# Altium footprint library SOICW16.PcbLib: 1 footprints
Each footprint in its own frame and in the unit in brackets; x right, y up, seen from the top. Pads: shape width x height; smd on the part's side, far side on the other; paste and mask are expansions set on the pad; w line width, h text height; cw(c..) or ccw(c..) is an arc to the next point about the centre after c.
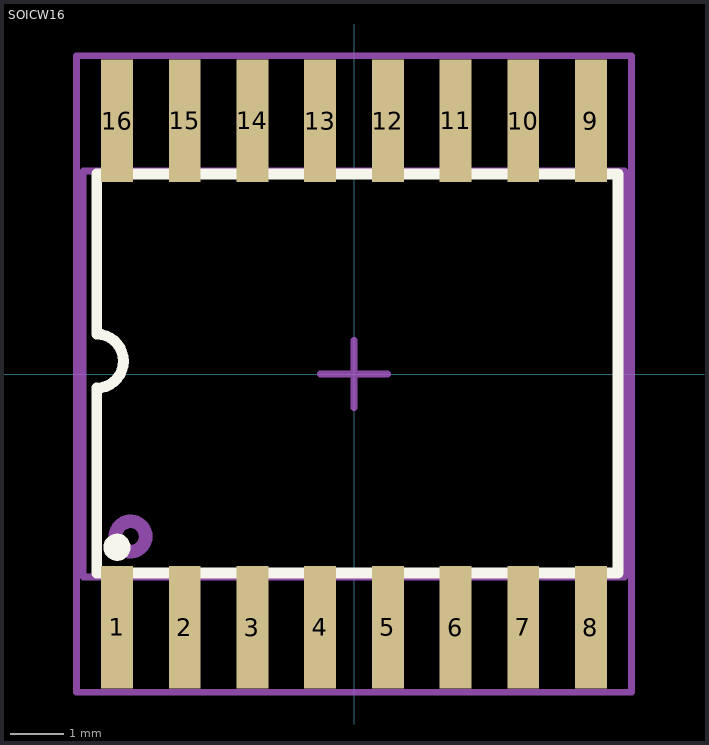
[diagram p0: the footprint, top view; thin cyan lines are the x and y axes]

## SOICW16 [mm]
pads (16):
  rect 0.6x2.3 smd: 1(-4.445,-4.75) 2(-3.175,-4.75) 3(-1.905,-4.75) 4(-0.635,-4.75) 5(0.635,-4.75) 6(1.905,-4.75) 7(3.175,-4.75) 8(4.445,-4.75) 9(4.445,4.75) 10(3.175,4.75) 11(1.905,4.75) 12(0.635,4.75) 13(-0.635,4.75) 14(-1.905,4.75) 15(-3.175,4.75) 16(-4.445,4.75)
Top Overlay:
  circle w0.254: c-4.445,-3.25 r0.127
  lines w0.203: -4.826,-0.266 ccw(c-4.834,0.242) -4.826,0.75 -4.826,3.75 4.953,3.75 4.953,-3.734 -4.826,-3.734 -4.826,-0.258
Mechanical 13:
  circle w0.254: c-4.191,-3.048 r0.284
  lines w0.127: -5.08,-3.81 5.08,-3.81 5.08,3.81 -5.08,3.81 -5.08,-3.81
Mechanical 15:
  lines w0.127: -0.635,0 0.635,0 ; 0,-0.635 0,0.635 ; -5.207,-5.969 -5.207,5.969 5.207,5.969 5.207,-5.969 -5.207,-5.969
Mechanical 17:
  text "'.Designator'" at -4.191,-0.254 h0.64
Mechanical 19:
  text "'.Comment'" at -4.191,-0.254 h0.64
3D body "User Library-so16w.step": height 3.5, standoff 0, extent -5.1,-5.201 5.1,5.099